# EAGLE library part SENSEAIR_S8_SMD (library myownthings)
Female 4 pole pin header: Distrelec 300-24-780 Female 5 pole pin header: Distrelec 300-24-787
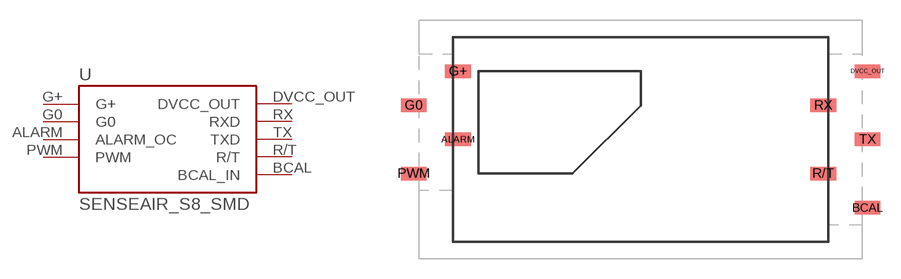
[diagram p1: symbol with the pads of SENSEAIR_S8_SMD; footprint SENSEAIR_S8_SMD]

Designator prefix -

## SENSEAIR_S8_SMD  [SENSEAIR_S8_SMD]
ALARM  ALARM_OC
BCAL  BCAL_IN
DVCC_OUT  DVCC_OUT
G0  G0
G+  G+
PWM  PWM
R/T  R/T
RX  RXD
TX  TXD

## Footprint SENSEAIR_S8_SMD (pad centres in mm)
smd 1.91 x 1: ALARM -13.595,0; BCAL 16.885,-5.08; DVCC_OUT 16.885,5.08; G0 -16.885,2.54; G+ -13.595,5.08; PWM -16.885,-2.54; R/T 13.595,-2.54; RX 13.595,2.54; TX 16.885,0